# Altium schematic symbol library adc_precision.SchLib: 10 symbols
Pins are listed as number, name and electrical type; pins without a type are passive.

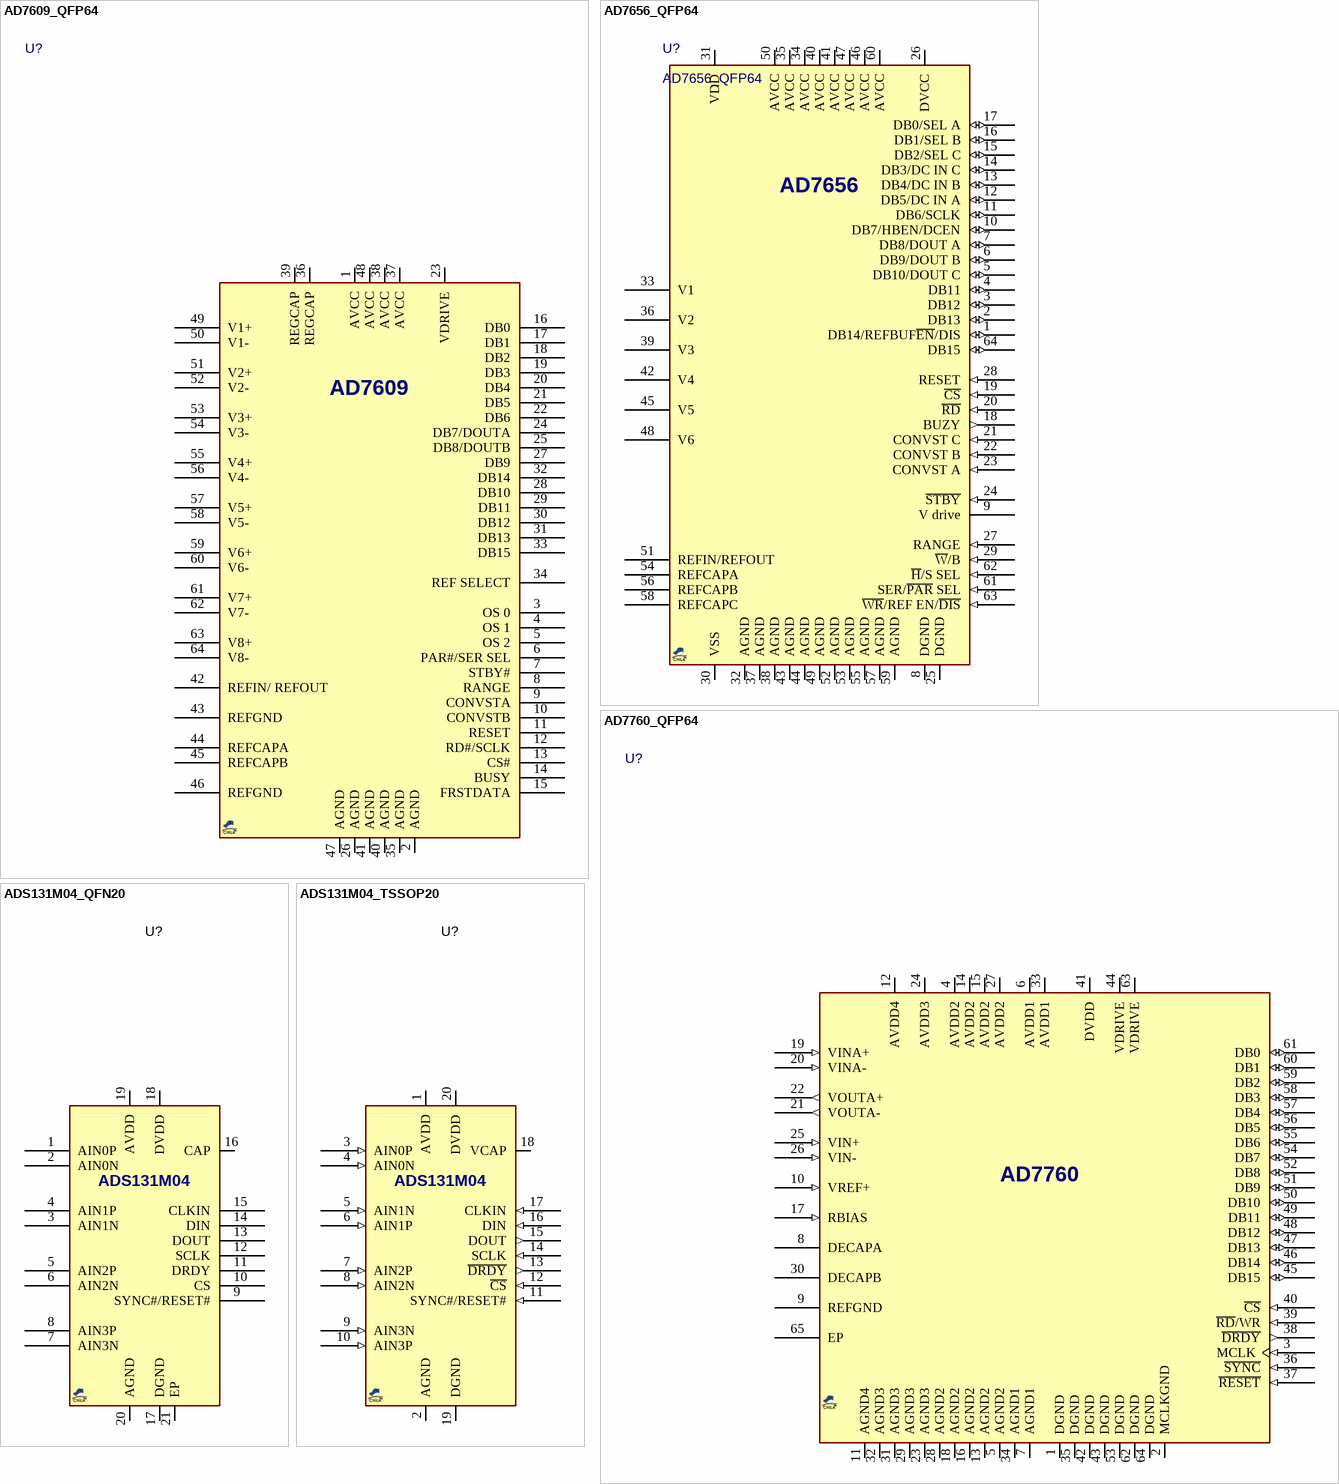
[diagram p0: symbols AD7609_QFP64 to ADS131M04_TSSOP20]

## AD7609_QFP64
designator U?, comment AD7609  (value not drawn)
ADC, 18-Bit, 200ksps, 8CH, SAR, Simultaneous Sampling, Differential DAS, QFP-64; MANF: Analog Devices; MANF_P#: AD7609BSTZ; DIST#: -; VALUE: AD7609; PACKAGE: QFP-64
footprint QFG50_64T (PowerPad PAP (TI) HTQFP 64PIN 10X10mm, Pitch: 0.5mm)
pins: 1 AVCC, 2 AGND, 3 OS 0, 4 OS 1, 5 OS 2, 6 PAR#/SER SEL, 7 STBY#, 8 RANGE, 9 CONVSTA, 10 CONVSTB, 11 RESET, 12 RD#/SCLK, 13 CS#, 14 BUSY, 15 FRSTDATA, 16 DB0, 17 DB1, 18 DB2, 19 DB3, 20 DB4, 21 DB5, 22 DB6, 23 VDRIVE, 24 DB7/DOUTA, 25 DB8/DOUTB, 26 AGND, 27 DB9, 28 DB10, 29 DB11, 30 DB12, 31 DB13, 32 DB14, 33 DB15, 34 REF SELECT, 35 AGND, 36 REGCAP, 37 AVCC, 38 AVCC, 39 REGCAP, 40 AGND, 41 AGND, 42 REFIN/ REFOUT, 43 REFGND, 44 REFCAPA, 45 REFCAPB, 46 REFGND, 47 AGND, 48 AVCC, 49 V1+, 50 V1-, 51 V2+, 52 V2-, 53 V3+, 54 V3-, 55 V4+, 56 V4-, 57 V5+, 58 V5-, 59 V6+, 60 V6-, 61 V7+, 62 V7-, 63 V8+, 64 V8-

## AD7656_QFP64
designator U?
ADC, 16-bit, 250Ksps, 6CH, SAR, simultaneous; DESC: pin compatible AD7656-16bit, AD7657-14bit, AD7658-12bit; MANF: Analog Devices; VALUE: AD7656; PACKAGE: QFP-64
footprint QFG50_64 (A64 (CYPRESS), TQFP64, LQFP64, VQ44, VQG44, 10X10mm, Pitch: 0.5mm)
pins: 1 DB14/REFBUF~{EN}/DIS (io), 2 DB13 (io), 3 DB12 (io), 4 DB11 (io), 5 DB10/DOUT C (io), 6 DB9/DOUT B (io), 7 DB8/DOUT A (io), 8 DGND, 9 V drive, 10 DB7/HBEN/DCEN (io), 11 DB6/SCLK (io), 12 DB5/DC IN A (io), 13 DB4/DC IN B (io), 14 DB3/DC IN C (io), 15 DB2/SEL C (io), 16 DB1/SEL B (io), 17 DB0/SEL A (io), 18 BUZY (out), 19 ~{CS} (in), 20 ~{RD} (in), 21 CONVST C (in), 22 CONVST B (in), 23 CONVST A (in), 24 ~{STBY} (in), 25 DGND, 26 DVCC, 27 RANGE (in), 28 RESET (in), 29 ~{W}/B (in), 30 VSS, 31 VDD, 32 AGND, 33 V1 (hiz), 34 AVCC, 35 AVCC, 36 V2 (hiz), 37 AGND, 38 AGND, 39 V3 (hiz), 40 AVCC, 41 AVCC, 42 V4 (hiz), 43 AGND, 44 AGND, 45 V5 (hiz), 46 AVCC, 47 AVCC, 48 V6 (hiz), 49 AGND, 50 AVCC, 51 REFIN/REFOUT, 52 AGND, 53 AGND, 54 REFCAPA, 55 AGND, 56 REFCAPB, 57 AGND, 58 REFCAPC, 59 AGND, 60 AVCC, 61 SER/~{PAR} SEL (in), 62 ~{H}/S SEL (in), 63 ~{WR}/REF EN/~{DIS} (in), 64 DB15 (io)

## AD7760_QFP64
designator U?, comment AD7760  (value not drawn)
ADC, 24-Bit, 2.5MSPS, Sigma-Delta, Parallel Interface, SV-64-2; MANF: Analog Devices; MANF_P#: AD7760BSVZ; DIST#: Mouser/584-AD7760BSVZ; VALUE: AD7760; PACKAGE: QFP-64
footprint QFG50_64T (PowerPad PAP (TI) HTQFP 64PIN 10X10mm, Pitch: 0.5mm)
pins: 1 DGND (power) "Ground Reference for Digital Circuitry.", 2 MCLKGND (power) "Master Clock Ground Sensing Pin.", 3 MCLK (in) "Master Clock Input. A low jitter, buffered digital clock must be applied to this pin. The output data rate depends on the frequency of this clock. See the Clocking the AD7760 section for more details.", 4 AVDD2 (power) "5 V Power Supply. These pins should be decoupled to AGND2 (Pin 5 and Pin 13, with 100 nF capacitors on each of Pin 4, Pin 14, and Pin 15). Pin 27 should be connected to Pin 14 via a 15 nH inductor. See the Decoupling and (See Datasheet)", 5 AGND2 (power) "Power Supply Ground for Analog Circuitry Powered by AVDD2.", 6 AVDD1 (power) "2.5 V Power Supply for Modulator. These pins should be decoupled to AGND1 (Pin 7 and Pin 34, respectively) with 100 nF and 10 uF capacitors on each pin. See the Decoupling and Layout Recommendations section for details.", 7 AGND1 (power) "Power Supply Ground for Analog Circuitry Powered by AVDD1.", 8 DECAPA "Decoupling Pin. A 100 nF capacitor must be inserted between this pin and AGND.", 9 REFGND (power) "Reference Ground. Ground connection for the reference voltage.", 10 VREF+ (in) "Reference Input. The input range of this pin is determined by the reference buffer supply voltage (AVDD4). See the Reference Voltage Filtering section for more details.", 11 AGND4 (power) "Power Supply Ground for Analog Circuitry Powered by AVDD4.", 12 AVDD4 (power) "3.3 V to 5 V Power Supply for Reference Buffer. This pin should be decoupled to Pin 9 with a 10 nF capacitor in series with a 10 O resistor.", 13 AGND2 (power) "Power Supply Ground for Analog Circuitry Powered by AVDD2.", 14 AVDD2 (power) "5 V Power Supply. These pins should be decoupled to AGND2 (Pin 5 and Pin 13, with 100 nF capacitors on each of Pin 4, Pin 14, and Pin 15). Pin 27 should be connected to Pin 14 via a 15 nH inductor. See the Decoupling and (See Datasheet)", 15 AVDD2 (power) "5 V Power Supply. These pins should be decoupled to AGND2 (Pin 5 and Pin 13, with 100 nF capacitors on each of Pin 4, Pin 14, and Pin 15). Pin 27 should be connected to Pin 14 via a 15 nH inductor. See the Decoupling and (See Datasheet)", 16 AGND2 (power) "Power Supply Ground for Analog Circuitry Powered by AVDD2.", 17 RBIAS (in) "Bias Current Setting Pin. A resistor must be inserted between this pin and AGND. For more details, see the Bias Resistor Selection section.", 18 AGND2 (power) "Power Supply Ground for Analog Circuitry Powered by AVDD2.", 19 VINA+ (in) "Positive Input to Differential Amplifier.", 20 VINA- (in) "Negative Input to Differential Amplifier.", 21 VOUTA- (out) "Negative Output from Differential Amplifier.", 22 VOUTA+ (out) "Positive Output from Differential Amplifier.", 23 AGND3 (power) "Power Supply Ground for Analog Circuitry Powered by AVDD3.", 24 AVDD3 (power) "3.3 V to 5 V Power Supply for Differential Amplifier. This pin should be decoupled to AGND3 (Pin 23) with a 100 nF capacitor. See the Decoupling and Layout Recommendations section for details.", 25 VIN+ (in) "Positive Input to the Modulator.", 26 VIN- (in) "Negative Input to the Modulator.", 27 AVDD2 (power) "5 V Power Supply. These pins should be decoupled to AGND2 (Pin 5 and Pin 13, with 100 nF capacitors on each of Pin 4, Pin 14, and Pin 15). Pin 27 should be connected to Pin 14 via a 15 nH inductor. See the Decoupling and (See Datasheet)", 28 AGND2 (power) "Power Supply Ground for Analog Circuitry Powered by AVDD2.", 29 AGND3 (power) "Power Supply Ground for Analog Circuitry Powered by AVDD3.", 30 DECAPB "Decoupling Pin. A 33 pF capacitor must be inserted between this pin and AGND3.", 31 AGND3 (power) "Power Supply Ground for Analog Circuitry Powered by AVDD3.", 32 AGND3 (power) "Power Supply Ground for Analog Circuitry Powered by AVDD3.", 33 AVDD1 (power) "2.5 V Power Supply for Modulator. These pins should be decoupled to AGND1 (Pin 7 and Pin 34, respectively) with 100 nF and 10 uF capacitors on each pin. See the Decoupling and Layout Recommendations section for details.", 34 AGND1 (power) "Power Supply Ground for Analog Circuitry Powered by AVDD1.", 35 DGND (power) "Ground Reference for Digital Circuitry.", 36 ~{SYNC} (in) "Synchronization Input. A falling edge on this pin resets the internal filter. This can be used to synchronize multiple devices in a system. See the Synchronization section for more details.", 37 ~{RESET} (in) "A falling edge on this pin resets all internal digital circuitry and powers down the part. Holding this pin low keeps the AD7760 in a reset state.", 38 ~{DRDY} (out) "Data Ready Output. Each time new conversion data is available, an active low pulse, ?ICLK period wide, is produced on this pin. See the Modulator Data Output Mode and AD7760 Interface sections for more details.", 39 ~{RD}/WR (in) "Read/Write Input. This pin, in conjunction with the chip select pin, is used to read and write data to and from the AD7760. If this pi\n is low when C\S\ is low, a read takes place. If this pin is high when C\S\ is low, a (See Datasheet)", 40 ~{CS} (in) "Chip Select Input. Used in conjunction with the R\D\/WR pin to read and write data from and to the AD7760. See the Modulator Data Output Mode and AD7760 Interface sections for more details.", 41 DVDD (power) "2.5 V Power Supply for Digital Circuitry and FIR Filter. This pin should be decoupled to DGND with a 100 nF capacitor.", 42 DGND (power) "Ground Reference for Digital Circuitry.", 43 DGND (power) "Ground Reference for Digital Circuitry.", 44 VDRIVE (power) "Logic Power Supply Input, 1.8 V to 2.5 V. The voltage supplied at these pins determines the operating voltage of the logic interface. Both of these pins must be connected together and tied to the same supply. Each pin should (See Datasheet)", 45 DB15 (io) "16-Bit Bidirectional Data Bus. These are three-state pins that are controlled by the C\S\ pin and the R\D\/WR pin. The operating voltage for these pins is determined by the VDRIVE voltage. See the Modulator Data Output Mode (See Datasheet)", 46 DB14 (io) "16-Bit Bidirectional Data Bus. These are three-state pins that are controlled by the C\S\ pin and the R\D\/WR pin. The operating voltage for these pins is determined by the VDRIVE voltage. See the Modulator Data Output Mode (See Datasheet)", 47 DB13 (io) "16-Bit Bidirectional Data Bus. These are three-state pins that are controlled by the C\S\ pin and the R\D\/WR pin. The operating voltage for these pins is determined by the VDRIVE voltage. See the Modulator Data Output Mode (See Datasheet)", 48 DB12 (io) "16-Bit Bidirectional Data Bus. These are three-state pins that are controlled by the C\S\ pin and the R\D\/WR pin. The operating voltage for these pins is determined by the VDRIVE voltage. See the Modulator Data Output Mode (See Datasheet)", 49 DB11 (io) "16-Bit Bidirectional Data Bus. These are three-state pins that are controlled by the C\S\ pin and the R\D\/WR pin. The operating voltage for these pins is determined by the VDRIVE voltage. See the Modulator Data Output Mode (See Datasheet)", 50 DB10 (io) "16-Bit Bidirectional Data Bus. These are three-state pins that are controlled by the C\S\ pin and the R\D\/WR pin. The operating voltage for these pins is determined by the VDRIVE voltage. See the Modulator Data Output Mode (See Datasheet)", 51 DB9 (io) "16-Bit Bidirectional Data Bus. These are three-state pins that are controlled by the C\S\ pin and the R\D\/WR pin. The operating voltage for these pins is determined by the VDRIVE voltage. See the Modulator Data Output Mode (See Datasheet)", 52 DB8 (io) "16-Bit Bidirectional Data Bus. These are three-state pins that are controlled by the C\S\ pin and the R\D\/WR pin. The operating voltage for these pins is determined by the VDRIVE voltage. See the Modulator Data Output Mode (See Datasheet)", 53 DGND (power) "Ground Reference for Digital Circuitry.", 54 DB7 (io) "16-Bit Bidirectional Data Bus. These are three-state pins that are controlled by the C\S\ pin and the R\D\/WR pin. The operating voltage for these pins is determined by the VDRIVE voltage. See the Modulator Data Output Mode (See Datasheet)", 55 DB6 (io) "16-Bit Bidirectional Data Bus. These are three-state pins that are controlled by the C\S\ pin and the R\D\/WR pin. The operating voltage for these pins is determined by the VDRIVE voltage. See the Modulator Data Output Mode (See Datasheet)", 56 DB5 (io) "16-Bit Bidirectional Data Bus. These are three-state pins that are controlled by the C\S\ pin and the R\D\/WR pin. The operating voltage for these pins is determined by the VDRIVE voltage. See the Modulator Data Output Mode (See Datasheet)", 57 DB4 (io) "16-Bit Bidirectional Data Bus. These are three-state pins that are controlled by the C\S\ pin and the R\D\/WR pin. The operating voltage for these pins is determined by the VDRIVE voltage. See the Modulator Data Output Mode (See Datasheet)", 58 DB3 (io) "16-Bit Bidirectional Data Bus. These are three-state pins that are controlled by the C\S\ pin and the R\D\/WR pin. The operating voltage for these pins is determined by the VDRIVE voltage. See the Modulator Data Output Mode (See Datasheet)", 59 DB2 (io) "16-Bit Bidirectional Data Bus. These are three-state pins that are controlled by the C\S\ pin and the R\D\/WR pin. The operating voltage for these pins is determined by the VDRIVE voltage. See the Modulator Data Output Mode (See Datasheet)", 60 DB1 (io) "16-Bit Bidirectional Data Bus. These are three-state pins that are controlled by the C\S\ pin and the R\D\/WR pin. The operating voltage for these pins is determined by the VDRIVE voltage. See the Modulator Data Output Mode (See Datasheet)", 61 DB0 (io) "16-Bit Bidirectional Data Bus. These are three-state pins that are controlled by the C\S\ pin and the R\D\/WR pin. The operating voltage for these pins is determined by the VDRIVE voltage. See the Modulator Data Output Mode (See Datasheet)", 62 DGND (power) "Ground Reference for Digital Circuitry.", 63 VDRIVE (power) "Logic Power Supply Input, 1.8 V to 2.5 V. The voltage supplied at these pins determines the operating voltage of the logic interface. Both of these pins must be connected together and tied to the same supply. Each pin should (See Datasheet)", 64 DGND (power) "Ground Reference for Digital Circuitry.", 65 EP (power) "Exposed  Pad, exposed paddle to the AGND plane of the PCB."

## ADS131M04_QFN20
designator U?, comment ADS131M04  (value not drawn)
ADC, 24-Bit, 4-Channel, Simultaneous, Delta-Sigma; MANF: Texas Instruments; MANF_P#: ADS131M04PW; PARAM2: 3.3VA, 3.3VD/1.8VD, -40+125°C; PARAM: SNR 100, 32Ksps, SPI, DeltaSigma; PRICE: 5.5$; VALUE: ADS131M04; PACKAGE: QFN-20
footprint QFN40_20T (QFN, 20-Leads, Body 3X3mm, Pitch 0.40mm)
pins: 1 AIN0P, 2 AIN0N, 3 AIN1N, 4 AIN1P, 5 AIN2P, 6 AIN2N, 7 AIN3N, 8 AIN3P, 9 SYNC#/RESET#, 10 CS, 11 DRDY, 12 SCLK, 13 DOUT, 14 DIN, 15 CLKIN, 16 CAP, 17 DGND, 18 DVDD, 19 AVDD, 20 AGND, 21 EP

## ADS131M04_TSSOP20
designator U?, comment ADS131M04  (value not drawn)
ADC, 24-Bit, 4-Channel, Simultaneous, Delta-Sigma; MANF: Texas Instruments; MANF_P#: ADS131M04PW; PARAM2: 3.3VA, 3.3VD/1.8VD, -40+125°C; PARAM: SNR 100, 32Ksps, SPI, DeltaSigma; PRICE: 5.5$; VALUE: ADS131M04; PACKAGE: TSSOP-20
footprint SOG65_20 (PW TSSOP (TI), MO-153-AC (JEDEC), 20Lead, pitch: 0.65mm, 6.5x4.4x1.2mm)
pins: 1 AVDD (power), 2 AGND (power), 3 AIN0P (in), 4 AIN0N (in), 5 AIN1N (in), 6 AIN1P (in), 7 AIN2P (in), 8 AIN2N (in), 9 AIN3N (in), 10 AIN3P (in), 11 SYNC#/RESET# (in), 12 ~{CS} (in), 13 ~{DRDY} (out), 14 SCLK (in), 15 DOUT (out), 16 DIN (in), 17 CLKIN (in), 18 VCAP, 19 DGND (power), 20 DVDD (power)

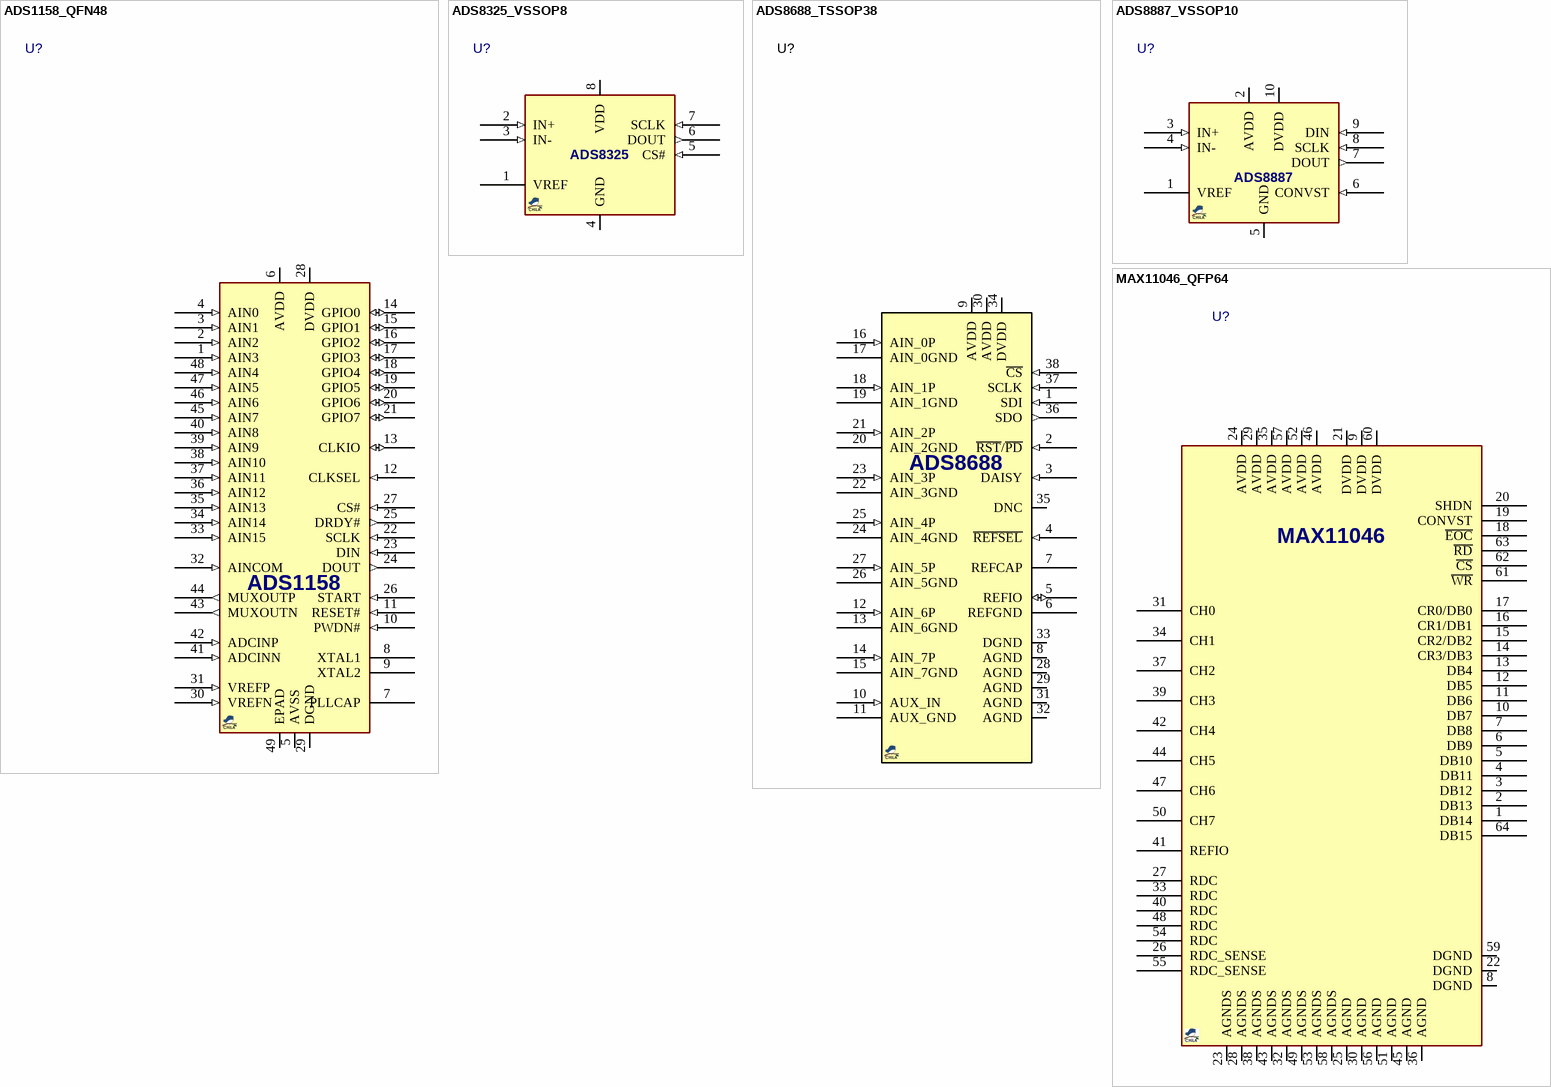
[diagram p1: symbols ADS1158_QFN48 to MAX11046_QFP64]

## ADS1158_QFN48
designator U?, comment ADS1158  (value not drawn)
ADC, 16-Bit, 125ksps, 16CH, DeltaSigma, QFN48; MANF: Texas Instruments; MANF_P#: ADS1158IRTC; PARAM2: ±2.5/5V, 2.7~5.25VIO; PARAM: 16-Bit, 125ksps, 16CH, 42mW, -40~105°C; DIST#: -; PRICE: 13$; VALUE: ADS1158; PACKAGE: QFN-48
footprint QFN50_48T (CP-48 (Analog Device),, MO-220-VKKD-2(JEDEC), RGZ S-PQFP-N48, S-PWQFN-N48(TI), 7X7mm, 0.5mm)
pins: 1 AIN3 (in), 2 AIN2 (in), 3 AIN1 (in), 4 AIN0 (in), 5 AVSS (power), 6 AVDD (power), 7 PLLCAP (power), 8 XTAL1, 9 XTAL2, 10 PWDN# (in), 11 RESET# (in), 12 CLKSEL (in), 13 CLKIO (io), 14 GPIO0 (io), 15 GPIO1 (io), 16 GPIO2 (io), 17 GPIO3 (io), 18 GPIO4 (io), 19 GPIO5 (io), 20 GPIO6 (io), 21 GPIO7 (io), 22 SCLK (in), 23 DIN (in), 24 DOUT (out), 25 DRDY# (out), 26 START (in), 27 CS# (in), 28 DVDD (power), 29 DGND (power), 30 VREFN (in), 31 VREFP (in), 32 AINCOM (in), 33 AIN15 (in), 34 AIN14 (in), 35 AIN13 (in), 36 AIN12 (in), 37 AIN11 (in), 38 AIN10 (in), 39 AIN9 (in), 40 AIN8 (in), 41 ADCINN (in), 42 ADCINP (in), 43 MUXOUTN (out), 44 MUXOUTP (out), 45 AIN7 (in), 46 AIN6 (in), 47 AIN5 (in), 48 AIN4 (in), 49 EPAD (power)

## ADS8325_VSSOP8
designator U?, comment ADS8325  (value not drawn)
ADC, 16-bit, 100ksps, SAR; MANF: TI; MANF_P#: ADS8325IDGKT; PRICE: 13$@MOUSER; VALUE: ADS8325; PACKAGE: VSSOP-8
footprint SOG65_8_3 (pitch: 0.65mm, 3.0mmX3.0mm, SSOP DCT SM8 (TI), TSSOP8, MICRO8, DGK, MSOP8, RM-8, MS8, MSOP-8, usop8/8uSOP)
pins: 1 VREF (power), 2 IN+ (in), 3 IN- (in), 4 GND (power), 5 CS# (in), 6 DOUT (out), 7 SCLK (in), 8 VDD

## ADS8688_TSSOP38
designator U?, comment ADS8688  (value not drawn)
ADC, 16-Bit, 500-kSPS, SAR, 8-Channel, Single-Supply, Bipolar Input; MANF: Texas Instruments; MANF_P#: ADS8688IDBT; PARAM2: 5Vcc, 3.3/5VIO; PARAM: –40~125°C; PRICE: 19$; VALUE: ADS8688; PACKAGE: TSSOP-38
footprint SOG50_38 (38L TSSOP (MAXIM),38Lead, pitch: 0.5mm, 10x4.4x1.2mm)
pins: 1 SDI (in) "Data input for serial communication.", 2 ~{RST}/~{PD} (in) "Active low logic input. Dual functionality to reset or power-down the device.", 3 DAISY (in) "Chain the data input during serial communication in daisy-chain mode.", 4 ~{REFSEL} (in) "Active low logic input to enable the internal reference. When low, the internal reference is enabled; REFIO becomes an output that includes the VREF voltage. When high, the internal reference is disabled; REFIO becomes an input to apply the external VREF", 5 REFIO (io) "Internal reference output and external reference input pin. Decouple with REFGND on pin 6.", 6 REFGND (power) "Reference GND pin; short to the analog GND plane. Decouple with REFIO on pin 5 and REFCAP on pin 7.", 7 REFCAP "ADC reference decoupling capacitor pin. Decouple with REFGND on pin 6.", 8 AGND (power) "Analog ground pin. Decouple with AVDD on pin 9.", 9 AVDD (power) "Analog supply pin. Decouple with AGND on pin 8.", 10 AUX_IN (in) "Auxiliary input channel: positive input. Decouple with AUX_GND on pin 11.", 11 AUX_GND (power) "Auxiliary input channel: negative input. Decouple with AUX_IN on pin 10.", 12 AIN_6P (in) "Analog input channel 6: Positive input. Decouple with AIN_6GND on pin 13.", 13 AIN_6GND (power) "Analog input channel 6: negative input. Decouple with AIN_6P on pin 12.", 14 AIN_7P (in) "Analog input channel 7: positive input. Decouple with AIN_7GND on pin 15.", 15 AIN_7GND (power) "Analog input channel 7: negative input. Decouple with AIN_7P on pin 14.", 16 AIN_0P (in) "Analog input channel 0: positive input. Decouple with AIN_0GND on pin 17.", 17 AIN_0GND (power) "Analog input channel 0: negative input. Decouple with AIN_0P on pin 16.", 18 AIN_1P (in) "Analog input channel 1: positive input. Decouple with AIN_1GND on pin 19.", 19 AIN_1GND (power) "Analog input channel 1: negative input. Decouple with AIN_1P on pin 18.", 20 AIN_2GND (power) "Analog input channel 2: positive input. Decouple with AIN_2GND on pin 21.", 21 AIN_2P (in) "Analog input channel 2: negative input. Decouple with AIN_2P on pin 20.", 22 AIN_3GND (power) "Analog input channel 3: positive input. Decouple with AIN_3GND on pin 23.", 23 AIN_3P (in) "Analog input channel 3: negative input. Decouple with AIN_3P on pin 22.", 24 AIN_4GND (power) "Analog input channel 4: positive input. Decouple with AIN_4GND on pin 25.", 25 AIN_4P (in) "Analog input channel 4: negative input. Decouple with AIN_4P on pin 24.", 26 AIN_5GND (power) "Analog input channel 5: positive input. Decouple with AIN_5GND on pin 27.", 27 AIN_5P (in) "Analog input channel 5: negative input. Decouple with AIN_5P on pin 26.", 28 AGND (power) "Analog ground pin", 29 AGND (power) "Analog ground pin", 30 AVDD (power) "Analog supply pin. Decouple with AGND on pin 31.", 31 AGND (power) "Analog ground pin. Decouple with AVDD on pin 30.", 32 AGND (power) "Analog ground pin", 33 DGND (power) "Digital ground pin. Decouple with DVDD on pin 34.", 34 DVDD (power) "Digital supply pin. Decouple with DGND on pin 33.", 35 DNC "Do not connect this pin to any node; must remain floating.", 36 SDO (out) "Data output for serial communication", 37 SCLK (in) "Clock input for serial communication", 38 ~{CS} (in) "Active low logic input; chip-select signal"

## ADS8887_VSSOP10
designator U?, comment ADS8887  (value not drawn)
ADC, 18-bit, 100ksps, SAR; MANF: TI; MANF_P#: ADS8887IDGS; PRICE: 11$@MOUSER; VALUE: ADS8887; PACKAGE: VSSOP-10
footprint SOG50_10 (MSSOP10, 3X3mm 0.5mm pitch, DGS, MSOP10, 10uSOP/usop10 (Dallas), MO-187BA(JEDEC))
pins: 1 VREF, 2 AVDD, 3 IN+ (in), 4 IN- (in), 5 GND (power), 6 CONVST (in), 7 DOUT (out), 8 SCLK (in), 9 DIN (in), 10 DVDD

## MAX11046_QFP64
designator U?, comment MAX11046  (value not drawn)
ADC, 16-bit, 8CH, 250 kSps, SAR; MANF: Maxim Integrated; MANF_P#: MAX11046ECB+; PARAM2: 5VCC, 2.7~5.25VIO; PARAM: 16-bit, 8CH; PACKAGE: QFP-64; VALUE: MAX11046
footprint QFG50_64T (PowerPad PAP (TI) HTQFP 64PIN 10X10mm, Pitch: 0.5mm)
pins: 1 DB14, 2 DB13, 3 DB12, 4 DB11, 5 DB10, 6 DB9, 7 DB8, 8 DGND, 9 DVDD, 10 DB7, 11 DB6, 12 DB5, 13 DB4, 14 CR3/DB3, 15 CR2/DB2, 16 CR1/DB1, 17 CR0/DB0, 18 ~{EOC}, 19 CONVST, 20 SHDN, 21 DVDD, 22 DGND, 23 AGNDS, 24 AVDD, 25 AGND, 26 RDC_SENSE, 27 RDC, 28 AGNDS, 29 AVDD, 30 AGND, 31 CH0, 32 AGNDS, 33 RDC, 34 CH1, 35 AVDD, 36 AGND, 37 CH2, 38 AGNDS, 39 CH3, 40 RDC, 41 REFIO, 42 CH4, 43 AGNDS, 44 CH5, 45 AGND, 46 AVDD, 47 CH6, 48 RDC, 49 AGNDS, 50 CH7, 51 AGND, 52 AVDD, 53 AGNDS, 54 RDC, 55 RDC_SENSE, 56 AGND, 57 AVDD, 58 AGNDS, 59 DGND, 60 DVDD, 61 ~{WR}, 62 ~{CS}, 63 ~{RD}, 64 DB15